# Altium footprint library Synthiam-roundtrip.PcbLib: 483 footprints (part 4 of 31)
Each footprint in its own frame and in the unit in brackets; x right, y up, seen from the top. Pads: shape width x height; smd on the part's side, far side on the other; paste and mask are expansions set on the pad; w line width, h text height; cw(c..) or ccw(c..) is an arc to the next point about the centre after c.
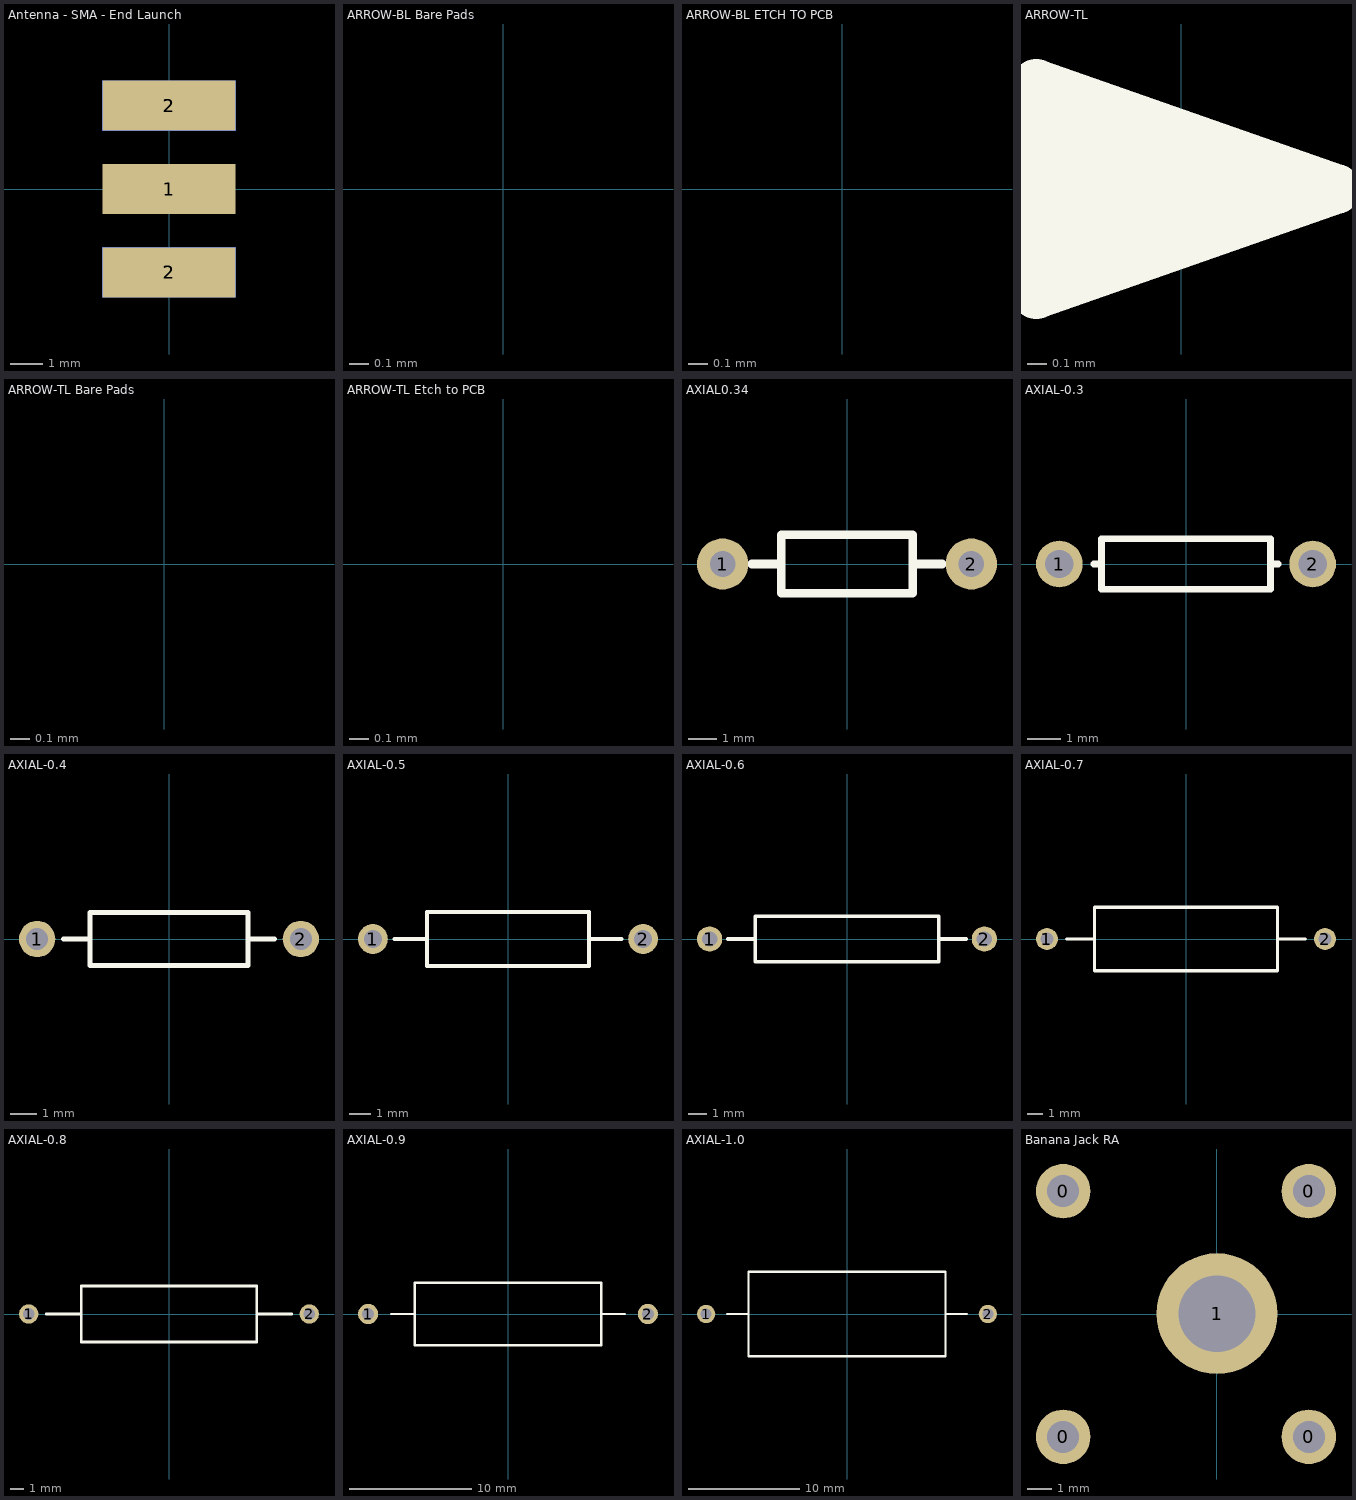
[diagram p3: the footprints below, top view; thin cyan lines are the x and y axes]

## Antenna - SMA - End Launch [mil]
pads (5):
  rect 160x60 smd: 1(0,0) 2(0,-100) 2(0,100)
  rect 160x60 smd far side: 2(0,-100) 2(0,100)

## ARROW-BL Bare Pads [mil]
Mid-Layer 2:
  lines w10: -21,11 -21,-11 12,0 -16,8 -16,0 -5,0 ; -29,-21 -29,21 31,0 -29,-21

## ARROW-BL ETCH TO PCB [mil]
Mid-Layer 3:
  lines w10: -21,11 -21,-11 12,0 -16,8 -16,0 -5,0 ; -29,-21 31,0 -29,21 -29,-21

## ARROW-TL [mil]
Top Overlay:
  lines w10: -21,11 -21,-11 12,0 -16,8 -16,0 -5,0 ; -29,-21 31,0 -29,21 -29,-21

## ARROW-TL Bare Pads [mil]
Mid-Layer 1:
  lines w10: -21,11 -21,-11 12,0 -16,8 -16,0 -5,0 ; -29,-21 -29,21 31,0 -29,-21

## ARROW-TL Etch to PCB [mil]
Mid-Layer 4:
  lines w10: -21,11 -21,-11 12,0 -16,8 -16,0 -5,0 ; -29,-21 31,0 -29,21 -29,-21

## AXIAL0.34 [mil]
pads (2):
  round 70 hole 35: 1(-170,0) 2(170,0)
Top Overlay:
  lines w12: -130,0 -90,0 ; 90,0 130,0 ; -90,-40 -90,40 90,40 90,-40 -90,-40

## AXIAL-0.3 [mm]
pads (2):
  round 1.4 hole 0.85: 1(-3.81,0) 2(3.81,0)
Top Overlay:
  lines w0.2: -2.769,0 -2.54,0 ; 2.769,0 2.54,0 ; 2.54,0 2.54,-0.762 -2.54,-0.762 -2.54,0.762 2.54,0.762 2.54,0

## AXIAL-0.4 [mm]
pads (2):
  round 1.4 hole 0.85: 1(-5.08,0) 2(5.08,0)
Top Overlay:
  lines w0.2: -4.064,0 -3.048,0 ; 3.048,0 4.064,0 ; -3.048,-1.016 3.048,-1.016 3.048,1.016 -3.048,1.016 -3.048,-1.016

## AXIAL-0.5 [mm]
pads (2):
  round 1.4 hole 0.85: 1(-6.35,0) 2(6.35,0)
Top Overlay:
  lines w0.2: -5.334,0 -3.81,0 ; 3.81,0 5.334,0 ; -3.81,-1.27 -3.81,1.27 3.81,1.27 3.81,-1.27 -3.81,-1.27

## AXIAL-0.6 [mm]
pads (2):
  round 1.4 hole 0.85: 1(-7.62,0) 2(7.62,0)
Top Overlay:
  lines w0.2: -6.604,0 -5.08,0 ; 5.08,0 6.604,0 ; -5.08,-1.27 5.08,-1.27 5.08,1.27 -5.08,1.27 -5.08,-1.27

## AXIAL-0.7 [mm]
pads (2):
  round 1.4 hole 0.85: 1(-8.89,0) 2(8.89,0)
Top Overlay:
  lines w0.2: -7.62,0 -5.842,0 ; 5.842,0 7.62,0 ; -5.842,-2.032 -5.842,2.032 5.842,2.032 5.842,-2.032 -5.842,-2.032

## AXIAL-0.8 [mm]
pads (2):
  round 1.4 hole 0.85: 1(-10.16,0) 2(10.16,0)
Top Overlay:
  lines w0.2: -8.89,0 -6.35,0 ; 6.35,0 8.89,0 ; -6.35,-2.032 6.35,-2.032 6.35,2.032 -6.35,2.032 -6.35,-2.032

## AXIAL-0.9 [mm]
pads (2):
  round 1.65 hole 1: 1(-11.43,0) 2(11.43,0)
Top Overlay:
  lines w0.2: -9.525,0 -7.62,0 ; 7.62,0 9.525,0 ; -7.62,-2.54 7.62,-2.54 7.62,2.54 -7.62,2.54 -7.62,-2.54

## AXIAL-1.0 [mm]
pads (2):
  round 1.65 hole 1: 1(-12.7,0) 2(12.7,0)
Top Overlay:
  lines w0.2: -10.795,0 -8.89,0 ; 8.89,0 10.795,0 ; -8.89,-3.81 8.89,-3.81 8.89,3.81 -8.89,3.81 -8.89,-3.81

## Banana Jack RA [mm]
pads (5):
  round 2.25 hole 1.321: 0(-6.36,-5.08) 0(-6.36,5.08) 0(3.8,-5.08) 0(3.8,5.08)
  round 5 hole 3.175: 1(0.005,0.015)